# EAGLE library part ESP32WROOM32U (library SpatMuy2022)
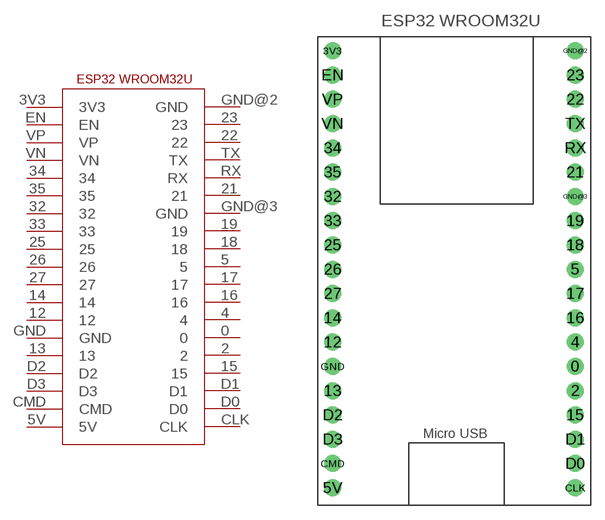
[diagram p1: symbol with the pads of ESP32WROOM32U; footprint ESP32WROOM32U]

Designator prefix -

## ESP32WROOM32U  [ESP32WROOM32U]
0  0
2  2
3V3  3V3
4  4
5  5
5V  5V
12  12
13  13
14  14
15  15
16  16
17  17
18  18
19  19
21  21
22  22
23  23
25  25
26  26
27  27
32  32
33  33
34  34
35  35
CLK  CLK
CMD  CMD
D0  D0
D1  D1
D2  D2
D3  D3
EN  EN
GND  GND
GND@2  GND
GND@3  GND
RX  RX
TX  TX
VN  VN
VP  VP

## Footprint ESP32WROOM32U (pad centres in mm)
drill 0.9 pad 1.778: 0 27.9,-30.48; 2 27.9,-33.02; 3V3 2.54,2.54; 4 27.9,-27.94; 5 27.9,-20.32; 5V 2.54,-43.18; 12 2.54,-27.94; 13 2.54,-33.02; 14 2.54,-25.4; 15 27.9,-35.56; 16 27.9,-25.4; 17 27.9,-22.86; 18 27.9,-17.78; 19 27.9,-15.24; 21 27.9,-10.16; 22 27.9,-2.54; 23 27.9,0; 25 2.54,-17.78; 26 2.54,-20.32; 27 2.54,-22.86; 32 2.54,-12.7; 33 2.54,-15.24; 34 2.54,-7.62; 35 2.54,-10.16; CLK 27.9,-43.18; CMD 2.54,-40.64; D0 27.9,-40.64; D1 27.9,-38.1; D2 2.54,-35.56; D3 2.54,-38.1; EN 2.54,0; GND 2.54,-30.48; GND@2 27.9,2.54; GND@3 27.9,-12.7; RX 27.9,-7.62; TX 27.9,-5.08; VN 2.54,-5.08; VP 2.54,-2.54